# EAGLE library part RPI3 (library Custom)
Raspberry Pi 3 expansion board.
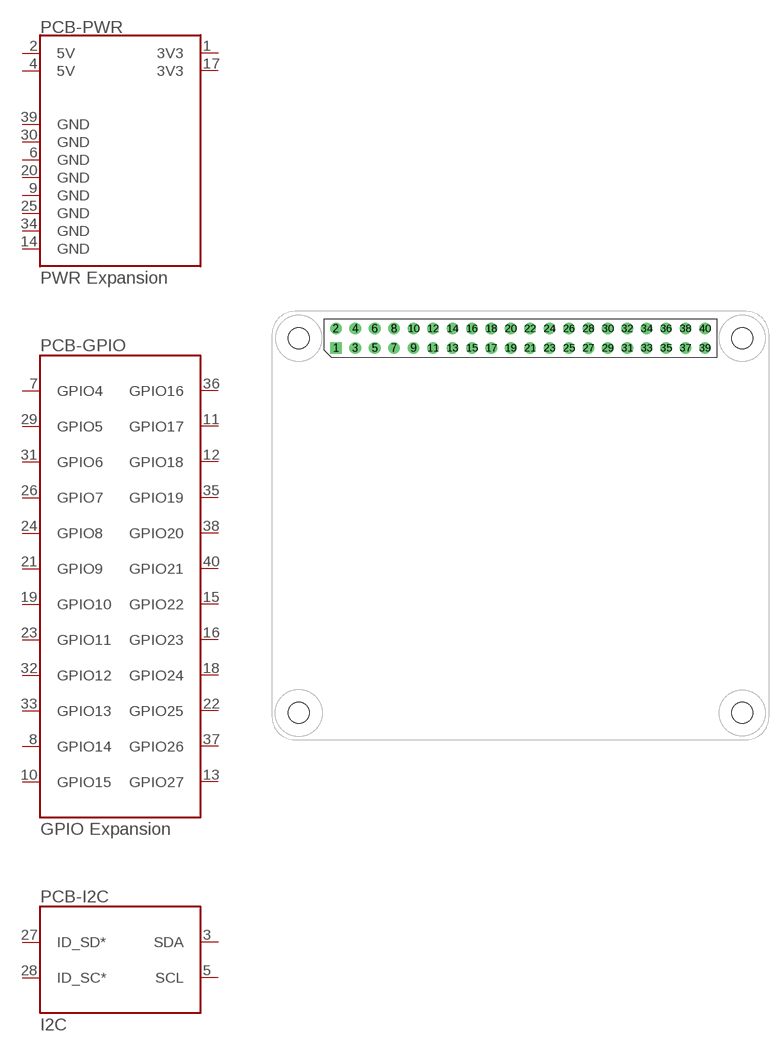
[diagram p2: symbol with the pads of RPI3; footprint RPI3]

Designator prefix PCB; gates -PWR=RPI3_PWR -GPIO=RPI3_GPIO -I2C=RPI3_I2C

## RPI3  [RPI3]
1  -PWR:3V3
2  -PWR:5V
3  -I2C:SDA
4  -PWR:5V
5  -I2C:SCL
6  -PWR:GND
7  -GPIO:GPIO4
8  -GPIO:GPIO14
9  -PWR:GND
10  -GPIO:GPIO15
11  -GPIO:GPIO17
12  -GPIO:GPIO18
13  -GPIO:GPIO27
14  -PWR:GND
15  -GPIO:GPIO22
16  -GPIO:GPIO23
17  -PWR:3V3
18  -GPIO:GPIO24
19  -GPIO:GPIO10
20  -PWR:GND
21  -GPIO:GPIO9
22  -GPIO:GPIO25
23  -GPIO:GPIO11
24  -GPIO:GPIO8
25  -PWR:GND
26  -GPIO:GPIO7
27  -I2C:ID_SD*
28  -I2C:ID_SC*
29  -GPIO:GPIO5
30  -PWR:GND
31  -GPIO:GPIO6
32  -GPIO:GPIO12
33  -GPIO:GPIO13
34  -PWR:GND
35  -GPIO:GPIO19
36  -GPIO:GPIO16
37  -GPIO:GPIO26
38  -GPIO:GPIO20
39  -PWR:GND
40  -GPIO:GPIO21

## Footprint RPI3 (pad centres in mm)
Package for the Raspberry Pi 3 board created by Dave Young for www.elemenet14.com based on documented dimensions and board measurements. For more documentation, please visit http://www.raspberrypi.org/documentation/hardware/raspberrypi/
drill 1.016 square: 1 8.37,51.23
drill 1.016: 2 8.357,53.772; 3 10.897,51.232; 4 10.897,53.772; 5 13.437,51.232; 6 13.437,53.772; 7 15.977,51.232; 8 15.977,53.772; 9 18.517,51.232; 10 18.517,53.772; 11 21.057,51.232; 12 21.057,53.772; 13 23.597,51.232; 14 23.597,53.772; 15 26.137,51.232; 16 26.137,53.772; 17 28.677,51.232; 18 28.677,53.772; 19 31.217,51.232; 20 31.217,53.772; 21 33.757,51.232; 22 33.757,53.772; 23 36.297,51.232; 24 36.297,53.772; 25 38.837,51.232; 26 38.837,53.772; 27 41.377,51.232; 28 41.377,53.772; 29 43.917,51.232; 30 43.917,53.772; 31 46.457,51.232; 32 46.457,53.772; 33 48.997,51.232; 34 48.997,53.772; 35 51.537,51.232; 36 51.537,53.772; 37 54.077,51.232; 38 54.077,53.772; 39 56.617,51.232; 40 56.617,53.772
hole 2.75 at 3.5,3.5
hole 2.75 at 61.5,3.5
hole 2.75 at 3.5,52.5
hole 2.75 at 61.5,52.5